# EAGLE library part RFM70 (library rfm70)
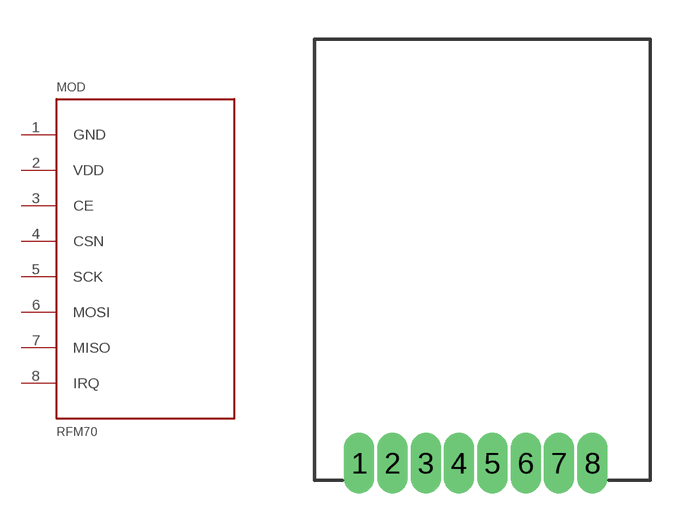
[diagram p0: symbol with the pads of RFM70_PACK; footprint RFM70_PACK]

Designator prefix MOD

## RFM70  [RFM70_PACK]
1  GND  pwr
2  VDD  pwr
3  CE  in
4  CSN  in
5  SCK
6  MOSI
7  MISO
8  IRQ  out

## Footprint RFM70_PACK (pad centres in mm)
drill 0.65 pad 1.016 long: 1 -5.08,-7.62; 2 -3.81,-7.62; 3 -2.54,-7.62; 4 -1.27,-7.62; 5 0,-7.62; 6 1.27,-7.62; 7 2.54,-7.62; 8 3.81,-7.62